# Altium footprint library pico-clasp-2.PcbLib: 1 footprints
Each footprint in its own frame and in the unit in brackets; x right, y up, seen from the top. Pads: shape width x height; smd on the part's side, far side on the other; paste and mask are expansions set on the pad; w line width, h text height; cw(c..) or ccw(c..) is an arc to the next point about the centre after c.
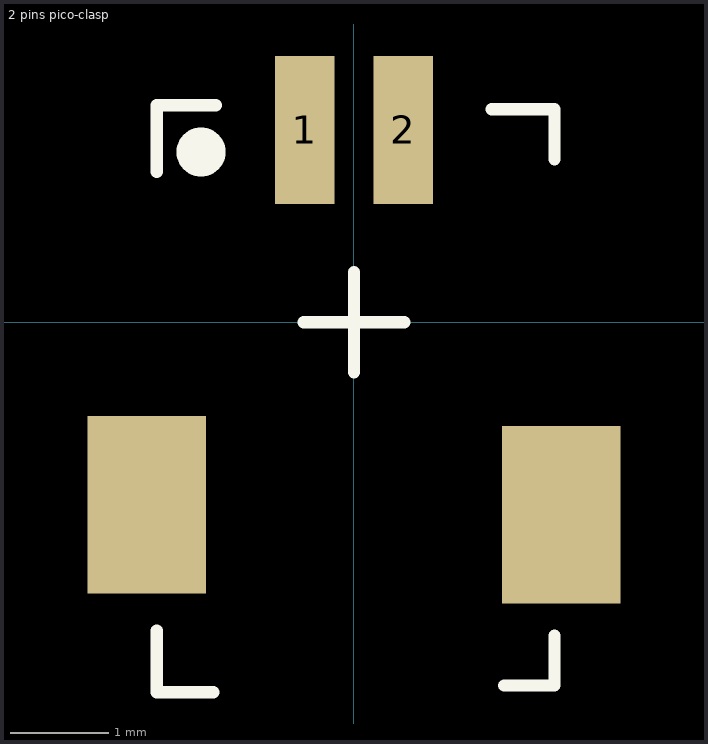
[diagram p0: the footprint, top view; thin cyan lines are the x and y axes]

## 2 pins pico-clasp [mm]
pads (5):
  rect 0.6x1.5 smd: 1(-0.5,1.95) 2(0.5,1.95)
  rect 1.2x1.8 smd: ""(-2.1,-1.851) ""(2.1,-1.95)
  round 0.5 on Top Overlay: ""(-1.55,1.725)
Top Overlay:
  lines w0.125: -2,-3.125 -2,-3.75 -1.425,-3.75 ; -2,1.525 -2,2.2 -1.4,2.2 ; -0.508,0 0.508,0 ; 0,-0.508 0,0.508 ; 1.397,2.159 2.032,2.159 2.032,1.651 ; 1.524,-3.683 2.032,-3.683 ; 2.032,-3.683 2.032,-3.175 2.032,-3.683
3D body "2023960207.stp": height 3.22, standoff 0.04, extent -2,-3.691 2,2.209